# EAGLE library part LTC4056ETS8-4_2 (library LTC4056ETS8-4_2)
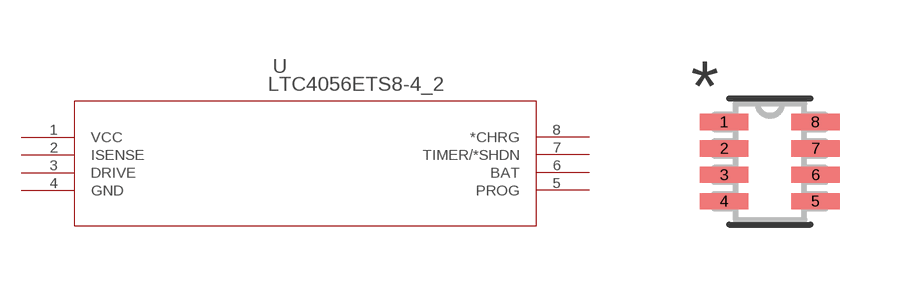
[diagram p0: symbol with the pads of SOT-23_TS; footprint SOT-23_TS]

Designator prefix U

## LTC4056ETS8-4_2 (Availability: Unavailable; Description: LTC4056-4.2 - Linear Li-Ion Charger with Termination in ThinSOT; MF: Linear Technology; MP: LTC4056ETS8-4.2; Package: None; Price: None)  [SOT-23_TS]
1  VCC  pwr
2  ISENSE  pas
3  DRIVE  out
4  GND  pwr
5  PROG  pas
6  BAT  in
7  TIMER/*SHDN  in
8  *CHRG  out

## Footprint SOT-23_TS (pad centres in mm)
smd 1.219 x 0.406: 1 -1.143,0.991; 2 -1.143,0.33; 3 -1.143,-0.33; 4 -1.143,-0.991; 5 1.143,-0.991; 6 1.143,-0.33; 7 1.143,0.33; 8 1.143,0.991